# EAGLE library part HT16K33_SOP20 (library microbuilder)
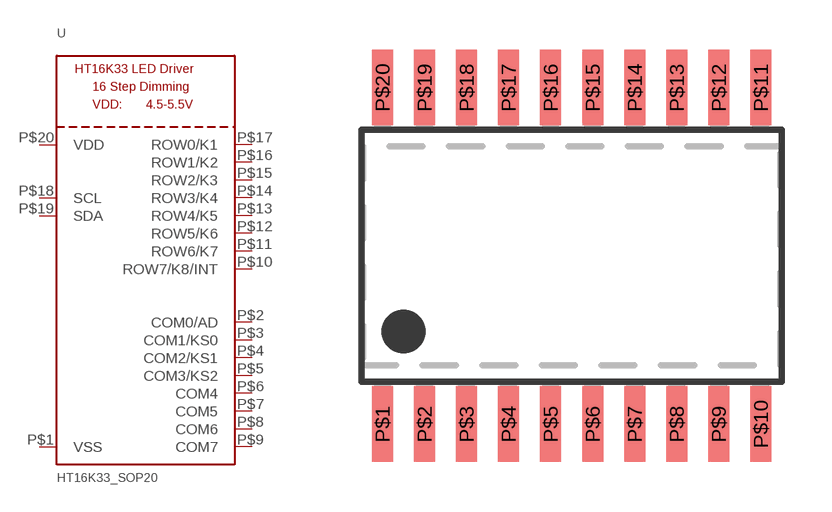
[diagram p177: symbol with the pads of SOP20_300MIL; footprint SOP20_300MIL]

Designator prefix U

## HT16K33_SOP20  [SOP20_300MIL]
P$1  VSS
P$2  COM0/AD
P$3  COM1/KS0
P$4  COM2/KS1
P$5  COM3/KS2
P$6  COM4
P$7  COM5
P$8  COM6
P$9  COM7
P$10  ROW7/K8/INT
P$11  ROW6/K7
P$12  ROW5/K6
P$13  ROW4/K5
P$14  ROW3/K4
P$15  ROW2/K3
P$16  ROW1/K2
P$17  ROW0/K1
P$18  SCL
P$19  SDA
P$20  VDD

## Footprint SOP20_300MIL (pad centres in mm)
smd 0.635 x 2.286: P$1 -5.715,-5.08; P$2 -4.445,-5.08; P$3 -3.175,-5.08; P$4 -1.905,-5.08; P$5 -0.635,-5.08; P$6 0.635,-5.08; P$7 1.905,-5.08; P$8 3.175,-5.08; P$9 4.445,-5.08; P$10 5.715,-5.08; P$11 5.715,5.08; P$12 4.445,5.08; P$13 3.175,5.08; P$14 1.905,5.08; P$15 0.635,5.08; P$16 -0.635,5.08; P$17 -1.905,5.08; P$18 -3.175,5.08; P$19 -4.445,5.08; P$20 -5.715,5.08